# EAGLE library part TSW-D-54 (library con-samtec-tsw)
HEADER
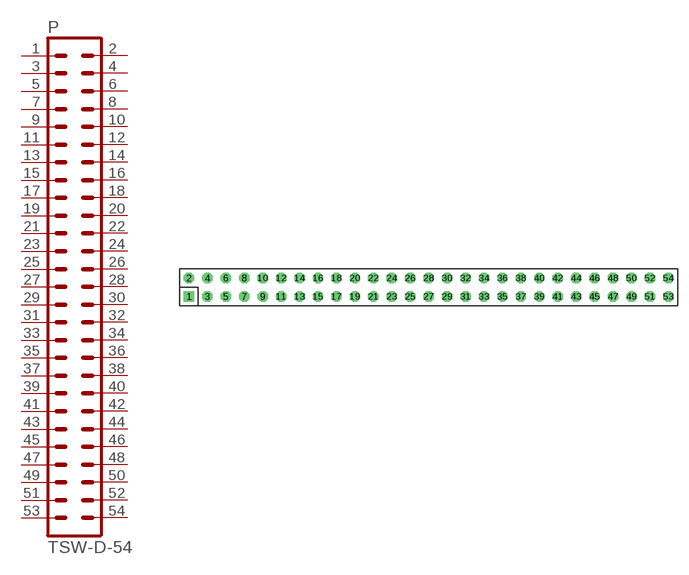
[diagram p114: symbol with the pads of TSW-D-54; footprint TSW-D-54]

Designator prefix P

## TSW-D-54  [TSW-D-54]
1  1  pas
2  2  pas
3  3  pas
4  4  pas
5  5  pas
6  6  pas
7  7  pas
8  8  pas
9  9  pas
10  10  pas
11  11  pas
12  12  pas
13  13  pas
14  14  pas
15  15  pas
16  16  pas
17  17  pas
18  18  pas
19  19  pas
20  20  pas
21  21  pas
22  22  pas
23  23  pas
24  24  pas
25  25  pas
26  26  pas
27  27  pas
28  28  pas
29  29  pas
30  30  pas
31  31  pas
32  32  pas
33  33  pas
34  34  pas
35  35  pas
36  36  pas
37  37  pas
38  38  pas
39  39  pas
40  40  pas
41  41  pas
42  42  pas
43  43  pas
44  44  pas
45  45  pas
46  46  pas
47  47  pas
48  48  pas
49  49  pas
50  50  pas
51  51  pas
52  52  pas
53  53  pas
54  54  pas

## Footprint TSW-D-54 (pad centres in mm)
HEADER
drill 0.914 square: 1 -33.02,-1.27
drill 0.914 octagon: 2 -33.02,1.27; 3 -30.48,-1.27; 4 -30.48,1.27; 5 -27.94,-1.27; 6 -27.94,1.27; 7 -25.4,-1.27; 8 -25.4,1.27; 9 -22.86,-1.27; 10 -22.86,1.27; 11 -20.32,-1.27; 12 -20.32,1.27; 13 -17.78,-1.27; 14 -17.78,1.27; 15 -15.24,-1.27; 16 -15.24,1.27; 17 -12.7,-1.27; 18 -12.7,1.27; 19 -10.16,-1.27; 20 -10.16,1.27; 21 -7.62,-1.27; 22 -7.62,1.27; 23 -5.08,-1.27; 24 -5.08,1.27; 25 -2.54,-1.27; 26 -2.54,1.27; 27 0,-1.27; 28 0,1.27; 29 2.54,-1.27; 30 2.54,1.27; 31 5.08,-1.27; 32 5.08,1.27; 33 7.62,-1.27; 34 7.62,1.27; 35 10.16,-1.27; 36 10.16,1.27; 37 12.7,-1.27; 38 12.7,1.27; 39 15.24,-1.27; 40 15.24,1.27; 41 17.78,-1.27; 42 17.78,1.27; 43 20.32,-1.27; 44 20.32,1.27; 45 22.86,-1.27; 46 22.86,1.27; 47 25.4,-1.27; 48 25.4,1.27; 49 27.94,-1.27; 50 27.94,1.27; 51 30.48,-1.27; 52 30.48,1.27; 53 33.02,-1.27; 54 33.02,1.27